# Altium integrated library Linear Technology PMIC-Switching Reg LTC1174-LTC3901.IntLib: 2647 symbols (part 123 of 310)
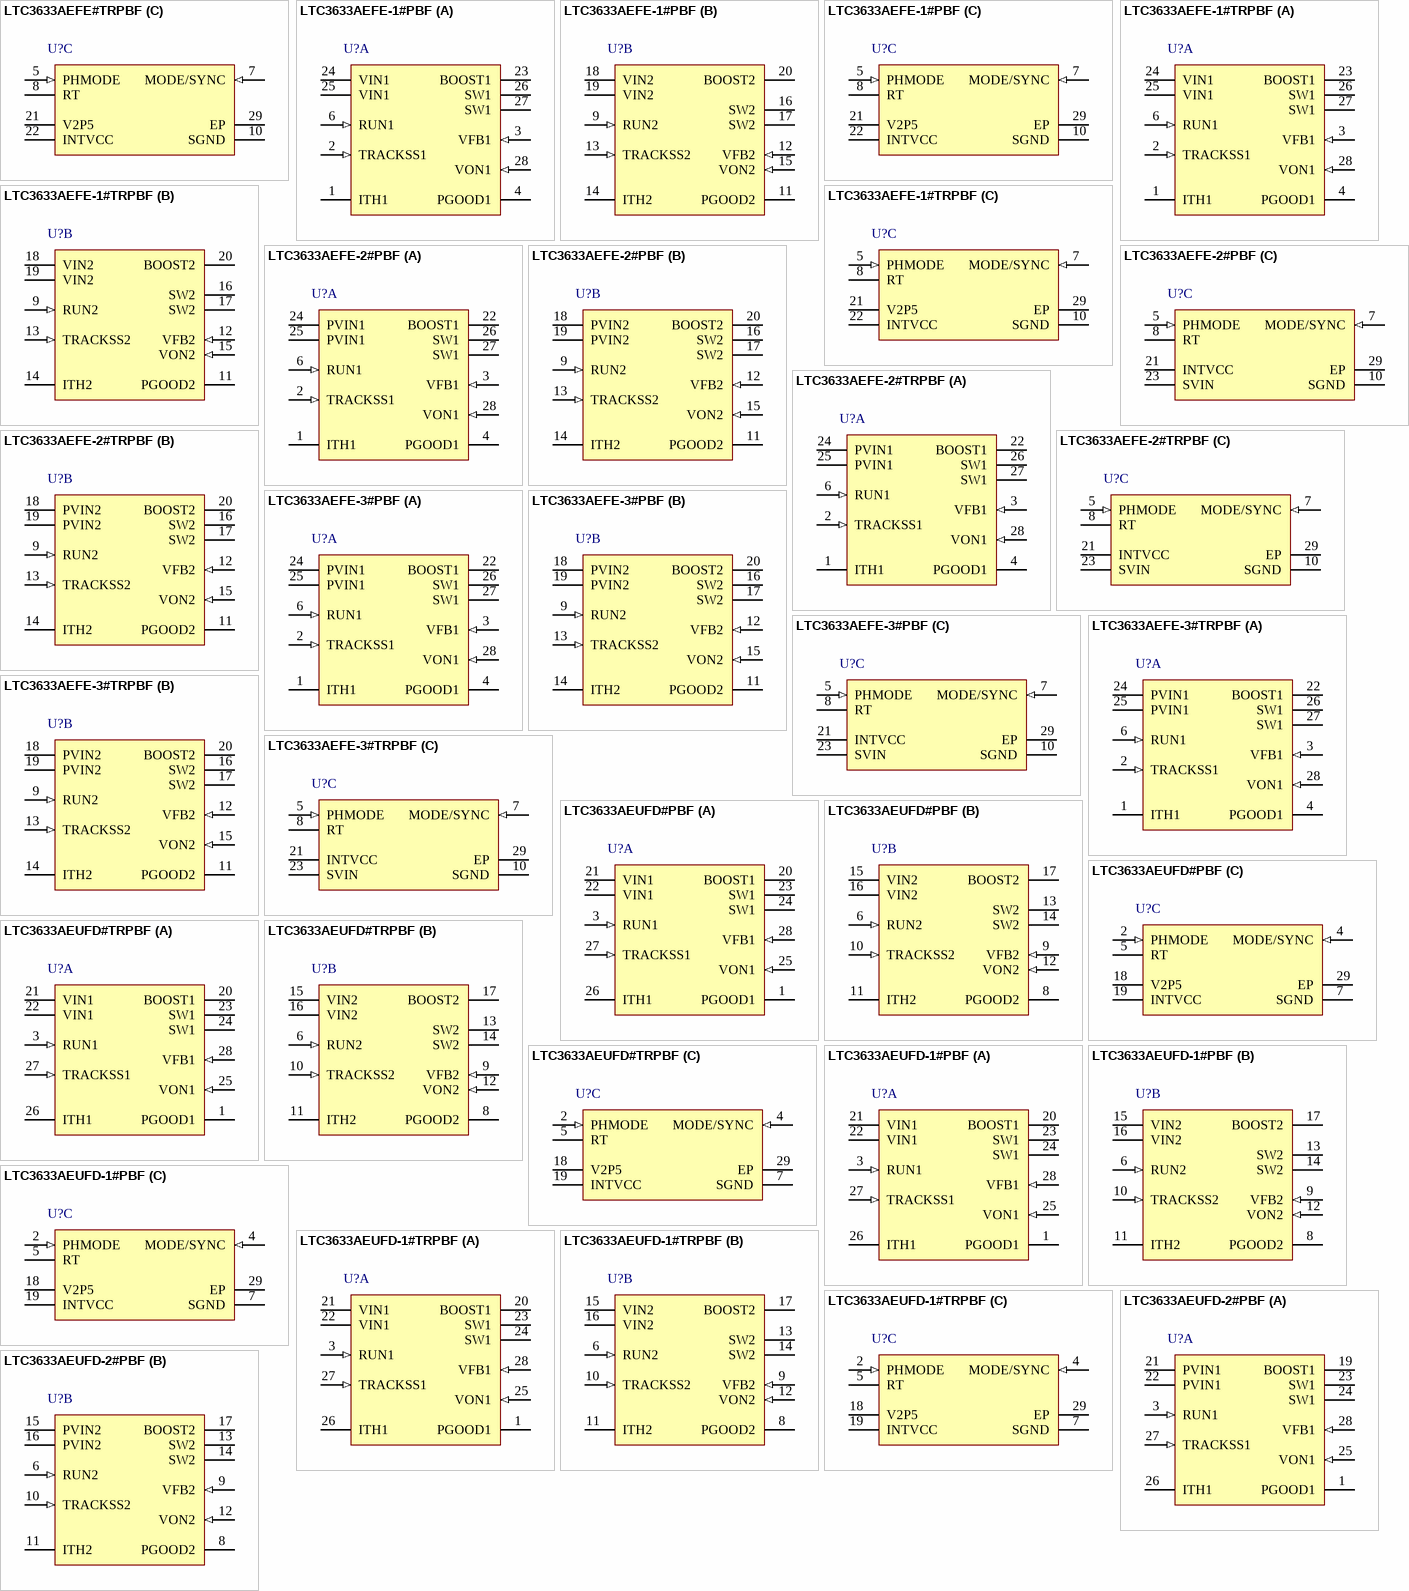
[diagram p186: symbols LTC3633AEFE#TRPBF to LTC3633AEUFD-2#PBF]

## LTC3633AEFE-1#PBF
designator U?
Dual Channel 3 A, Monolithic Synchronous Step-Down Regulator, 28-pin SOP (FE-28-EPV-EB), -40 to 125 degC, Pb-Free; Manufacturer: Linear Technology; PartNumber: LTC3633AEFE-1#PBF; Number of Outputs: 2; PackageReference: FE-28; PackageDescription: 28-Pin Plastic TSSOP, Body 9.7 x 4.4 mm, Pitch 0.65 mm; Supplier 1: Digi-Key; Supplier Part Number 1: LTC3633AEFE-1#PBF-ND; RoHS: TRUE
footprint LT-FE-28-EPV-EB_N (SOP, 28-Leads, Body 9.8x4.5mm, Pitch 0.65mm, Thermal Pad 4.75x2.74mm, IPC Medium Density)
footprint LT-FE-28-EPV-EB_L (SOP, 28-Leads, Body 9.8x4.5mm, Pitch 0.65mm, Thermal Pad 4.75x2.74mm, IPC High Density)
footprint LT-FE-28-EPV-EB_M (SOP, 28-Leads, Body 9.8x4.5mm, Pitch 0.65mm, Thermal Pad 4.75x2.74mm, IPC Low Density)
part A pins: 1 ITH1 "Channel 1 Error Amplifier Output and Switching Regulator Compensation Pin. Connect this pin to appropriate external components to compensate the regulator loop frequency response. Connect this pin to INTVCC to use the (See Datasheet)", 2 TRACKSS1 (in), 3 VFB1 (in) "Channel 1 Output Feedback Voltage Pin. Input to the error amplifier that compares the feedback voltage to the internal 0.6V reference voltage. Connect this pin to a resistor divider network to program the desired output (See Datasheet)", 4 PGOOD1 (hiz) "Channel 1 Open-Drain Power Good Output Pin. PGOOD1 is pulled to ground when the voltage on the VFB1 pin is not within +/-8% (typical) of the internal 0.6V reference. PGOOD1 becomes high impedance once the VFB1 pin returns to (See Datasheet)", 6 RUN1 (in) "Channel 1 Regulator Enable Pin. Enables channel 1 operation by tying RUN1 above 1.22V. Tying it below 1V places channel 1 into shutdown. Do not float this pin.", 23 BOOST1, 24 VIN1 (power), 25 VIN1 (power), 26 SW1 (power) "Channel 1 Switch Node Connection to External Inductor. Voltage swing of SW is from a diode voltage drop below ground to VIN.", 27 SW1 (power) "Channel 1 Switch Node Connection to External Inductor. Voltage swing of SW is from a diode voltage drop below ground to VIN.", 28 VON1 (in)
part B pins: 9 RUN2 (in) "Channel 2 Regulator Enable Pin. Enables channel 2 operation by tying RUN2 above 1.22V. Tying it below 1V places channel 2 into shutdown. Do not float this pin.", 11 PGOOD2 (hiz) "Channel 2 Open-Drain Power Good Output Pin. PGOOD2 is pulled to ground when the voltage on the VFB2 pin is not within +/-8% (typical) of the internal 0.6V reference. PGOOD2 becomes high impedance once the VFB2 pin returns to (See Datasheet)", 12 VFB2 (in) "Channel 2 Output Feedback Voltage Pin. Input to the error amplifier that compares the feedback voltage to the internal 0.6V reference voltage. Connect this pin to a resistor divider network to program the desired output (See Datasheet)", 13 TRACKSS2 (in), 14 ITH2 "Channel 2 Error Amplifier Output and Switching Regulator Compensation Pin. Connect this pin to appropriate external components to compensate the regulator loop frequency response. Connect this pin to INTVCC to use the (See Datasheet)", 15 VON2 (in), 16 SW2 (power) "Channel 2 Switch Node Connection to External Inductor. Voltage swing of SW is from a diode voltage drop below ground to VIN.", 17 SW2 (power) "Channel 2 Switch Node Connection to External Inductor. Voltage swing of SW is from a diode voltage drop below ground to VIN.", 18 VIN2 (power) "Power Supply Input for Channel 2. Input voltage to the on chip power MOSFETs on channel 2. This input is capable of operating from a different supply voltage than VIN1.", 19 VIN2 (power) "Power Supply Input for Channel 2. Input voltage to the on chip power MOSFETs on channel 2. This input is capable of operating from a different supply voltage than VIN1.", 20 BOOST2
part C pins: 5 PHMODE (in), 7 MODE/SYNC (in), 8 RT "Oscillator Frequency Program Pin. Connect an external resistor (between 80k to 640k) from this pin to SGND in order to program the frequency from 500kHz to 4MHz. When RT is tied to INTVCC, the switching frequency will (See Datasheet)", 10 SGND (power) "Signal Ground Pin. This pin should have a low noise connection to reference ground. The feedback resistor network, external compensation network, and RT resistor should be connected to this ground.", 21 V2P5 (power) "2.5V Regulator Output. Outputs a regulated 2.5V supply voltage capable of supplying 10mA. Bypass this pin with a minimum of 1uF low ESR ceramic capacitor. Tie this pin to INTVCC when this output is not being used in the (See Datasheet)", 22 INTVCC (power) "Internal 3.3V Regulator Output. The internal power drivers and control circuits are powered from this voltage. The internal regulator is disabled when both channel 1 and channel 2 are disabled with the RUN1/ RUN2 inputs. (See Datasheet)", 29 EP (power) "Power Ground Pin. The (-) terminal of the input bypass capacitor, CIN, and the (-) terminal of the output capacitor, COUT, should be tied to this pin with a low impedance connection. This pin must be soldered to the PCB to (See Datasheet)"

## LTC3633AEFE-1#TRPBF
designator U?
Dual Channel 3 A, Monolithic Synchronous Step-Down Regulator, 28-pin SOP (FE-28-EPV-EB), -40 to 125 degC, Pb-Free, Tape and Reel; Manufacturer: Linear Technology; PartNumber: LTC3633AEFE-1#TRPBF; Number of Outputs: 2; PackageReference: FE-28; PackageDescription: 28-Pin Plastic TSSOP, Body 9.7 x 4.4 mm, Pitch 0.65 mm; Supplier 1: Digi-Key; Supplier Part Number 1: LTC3633AEFE-1#TRPBF-ND; RoHS: TRUE
footprint LT-FE-28-EPV-EB_N (SOP, 28-Leads, Body 9.8x4.5mm, Pitch 0.65mm, Thermal Pad 4.75x2.74mm, IPC Medium Density)
footprint LT-FE-28-EPV-EB_L (SOP, 28-Leads, Body 9.8x4.5mm, Pitch 0.65mm, Thermal Pad 4.75x2.74mm, IPC High Density)
footprint LT-FE-28-EPV-EB_M (SOP, 28-Leads, Body 9.8x4.5mm, Pitch 0.65mm, Thermal Pad 4.75x2.74mm, IPC Low Density)
part A pins: 1 ITH1 "Channel 1 Error Amplifier Output and Switching Regulator Compensation Pin. Connect this pin to appropriate external components to compensate the regulator loop frequency response. Connect this pin to INTVCC to use the (See Datasheet)", 2 TRACKSS1 (in), 3 VFB1 (in) "Channel 1 Output Feedback Voltage Pin. Input to the error amplifier that compares the feedback voltage to the internal 0.6V reference voltage. Connect this pin to a resistor divider network to program the desired output (See Datasheet)", 4 PGOOD1 (hiz) "Channel 1 Open-Drain Power Good Output Pin. PGOOD1 is pulled to ground when the voltage on the VFB1 pin is not within +/-8% (typical) of the internal 0.6V reference. PGOOD1 becomes high impedance once the VFB1 pin returns to (See Datasheet)", 6 RUN1 (in) "Channel 1 Regulator Enable Pin. Enables channel 1 operation by tying RUN1 above 1.22V. Tying it below 1V places channel 1 into shutdown. Do not float this pin.", 23 BOOST1, 24 VIN1 (power), 25 VIN1 (power), 26 SW1 (power) "Channel 1 Switch Node Connection to External Inductor. Voltage swing of SW is from a diode voltage drop below ground to VIN.", 27 SW1 (power) "Channel 1 Switch Node Connection to External Inductor. Voltage swing of SW is from a diode voltage drop below ground to VIN.", 28 VON1 (in)
part B pins: 9 RUN2 (in) "Channel 2 Regulator Enable Pin. Enables channel 2 operation by tying RUN2 above 1.22V. Tying it below 1V places channel 2 into shutdown. Do not float this pin.", 11 PGOOD2 (hiz) "Channel 2 Open-Drain Power Good Output Pin. PGOOD2 is pulled to ground when the voltage on the VFB2 pin is not within +/-8% (typical) of the internal 0.6V reference. PGOOD2 becomes high impedance once the VFB2 pin returns to (See Datasheet)", 12 VFB2 (in) "Channel 2 Output Feedback Voltage Pin. Input to the error amplifier that compares the feedback voltage to the internal 0.6V reference voltage. Connect this pin to a resistor divider network to program the desired output (See Datasheet)", 13 TRACKSS2 (in), 14 ITH2 "Channel 2 Error Amplifier Output and Switching Regulator Compensation Pin. Connect this pin to appropriate external components to compensate the regulator loop frequency response. Connect this pin to INTVCC to use the (See Datasheet)", 15 VON2 (in), 16 SW2 (power) "Channel 2 Switch Node Connection to External Inductor. Voltage swing of SW is from a diode voltage drop below ground to VIN.", 17 SW2 (power) "Channel 2 Switch Node Connection to External Inductor. Voltage swing of SW is from a diode voltage drop below ground to VIN.", 18 VIN2 (power) "Power Supply Input for Channel 2. Input voltage to the on chip power MOSFETs on channel 2. This input is capable of operating from a different supply voltage than VIN1.", 19 VIN2 (power) "Power Supply Input for Channel 2. Input voltage to the on chip power MOSFETs on channel 2. This input is capable of operating from a different supply voltage than VIN1.", 20 BOOST2
part C pins: 5 PHMODE (in), 7 MODE/SYNC (in), 8 RT "Oscillator Frequency Program Pin. Connect an external resistor (between 80k to 640k) from this pin to SGND in order to program the frequency from 500kHz to 4MHz. When RT is tied to INTVCC, the switching frequency will (See Datasheet)", 10 SGND (power) "Signal Ground Pin. This pin should have a low noise connection to reference ground. The feedback resistor network, external compensation network, and RT resistor should be connected to this ground.", 21 V2P5 (power) "2.5V Regulator Output. Outputs a regulated 2.5V supply voltage capable of supplying 10mA. Bypass this pin with a minimum of 1uF low ESR ceramic capacitor. Tie this pin to INTVCC when this output is not being used in the (See Datasheet)", 22 INTVCC (power) "Internal 3.3V Regulator Output. The internal power drivers and control circuits are powered from this voltage. The internal regulator is disabled when both channel 1 and channel 2 are disabled with the RUN1/ RUN2 inputs. (See Datasheet)", 29 EP (power) "Power Ground Pin. The (-) terminal of the input bypass capacitor, CIN, and the (-) terminal of the output capacitor, COUT, should be tied to this pin with a low impedance connection. This pin must be soldered to the PCB to (See Datasheet)"

## LTC3633AEFE-2#PBF
designator U?
Dual Channel 3 A, Monolithic Synchronous Step-Down Regulator, 28-pin SOP (FE-28-EPV-EB), -40 to 125 degC, Pb-Free; Manufacturer: Linear Technology; PartNumber: LTC3633AEFE-2#PBF; Number of Outputs: 2; PackageReference: FE-28; PackageDescription: 28-Pin Plastic TSSOP, Body 9.7 x 4.4 mm, Pitch 0.65 mm; Supplier 1: Digi-Key; Supplier Part Number 1: LTC3633AEFE-2#PBF-ND; RoHS: TRUE
footprint LT-FE-28-EPV-EB_N (SOP, 28-Leads, Body 9.8x4.5mm, Pitch 0.65mm, Thermal Pad 4.75x2.74mm, IPC Medium Density)
footprint LT-FE-28-EPV-EB_L (SOP, 28-Leads, Body 9.8x4.5mm, Pitch 0.65mm, Thermal Pad 4.75x2.74mm, IPC High Density)
footprint LT-FE-28-EPV-EB_M (SOP, 28-Leads, Body 9.8x4.5mm, Pitch 0.65mm, Thermal Pad 4.75x2.74mm, IPC Low Density)
part A pins: 1 ITH1 "Channel 1 Error Amplifier Output and Switching Regulator Compensation Pin. Connect this pin to appropriate external components to compensate the regulator loop frequency response. Connect this pin to INTVCC to use the (See Datasheet)", 2 TRACKSS1 (in) "Output Tracking and Soft-Start Input Pin for Channel 1. Forcing a voltage below 0.6V on this pin bypasses the internal reference input to the error amplifier. The LTC3633A-2 will servo the FB pin to the TRACK voltage. Above (See Datasheet)", 3 VFB1 (in) "Channel 1 Output Feedback Voltage Pin. Input to the error amplifier that compares the feedback voltage to the internal 0.6V reference voltage. Connect this pin to a resistor divider network to program the desired output (See Datasheet)", 4 PGOOD1 (hiz) "Channel 1 Open-Drain Power Good Output Pin. PGOOD1 is pulled to ground when the voltage on the VFB1 pin is not within +/-8% (typical) of the internal 0.6V reference. PGOOD1 becomes high impedance once the VFB1 pin returns to (See Datasheet)", 6 RUN1 (in) "Channel 1 Regulator Enable Pin. Enables channel 1 operation by tying RUN1 above 1.22V. Tying it below 1V places channel 1 into shutdown. Do not float this pin.", 22 BOOST1 "Boosted Floating Driver Supply for Channel 1. The (+) terminal of the bootstrap capacitor connects to this pin while the (-) terminal connects to the SW pin. The normal operation voltage swing of this pin ranges from a diode (See Datasheet)", 24 PVIN1 (power) "Power Supply Input for Channel 1. Input voltage to the on chip power MOSFETs on channel 1.", 25 PVIN1 (power) "Power Supply Input for Channel 1. Input voltage to the on chip power MOSFETs on channel 1.", 26 SW1 (power) "Channel 1 Switch Node Connection to External Inductor. Voltage swing of SW is from a diode voltage drop below ground to PVIN.", 27 SW1 (power) "Channel 1 Switch Node Connection to External Inductor. Voltage swing of SW is from a diode voltage drop below ground to PVIN.", 28 VON1 (in) "On-Time Voltage Input for Channel 1. This pin sets the voltage trip point for the on-time comparator. Tying this pin to the regulated output voltage makes the on-time proportional to VOUT1 when VOUT1 is within the VON1 sense (See Datasheet)"
part B pins: 9 RUN2 (in) "Channel 2 Regulator Enable Pin. Enables channel 2 operation by tying RUN2 above 1.22V. Tying it below 1V places channel 2 into shutdown. Do not float this pin.", 11 PGOOD2 (hiz) "Channel 2 Open-Drain Power Good Output Pin. PGOOD2 is pulled to ground when the voltage on the VFB2 pin is not within +/-8% (typical) of the internal 0.6V reference. PGOOD2 becomes high impedance once the VFB2 pin returns to (See Datasheet)", 12 VFB2 (in) "Channel 2 Output Feedback Voltage Pin. Input to the error amplifier that compares the feedback voltage to the internal 0.6V reference voltage. Connect this pin to a resistor divider network to program the desired output (See Datasheet)", 13 TRACKSS2 (in) "Output Tracking and Soft-Start Input Pin for Channel 2. Forcing a voltage below 0.6V on this pin bypasses the internal reference input to the error amplifier. The LTC3633A-2 will servo the FB pin to the TRACK voltage under (See Datasheet)", 14 ITH2 "Channel 2 Error Amplifier Output and Switching Regulator Compensation Pin. Connect this pin to appropriate external components to compensate the regulator loop frequency response. Connect this pin to INTVCC to use the (See Datasheet)", 15 VON2 (in) "On-Time Voltage Input for Channel 2. This pin sets the voltage trip point for the on-time comparator. Tying this pin to the output voltage makes the on-time proportional to VOUT2 when VOUT2 is within the VON2 sense range (0.(See Datasheet)", 16 SW2 (power) "Channel 2 Switch Node Connection to External Inductor. Voltage swing of SW is from a diode voltage drop below ground to PVIN.", 17 SW2 (power) "Channel 2 Switch Node Connection to External Inductor. Voltage swing of SW is from a diode voltage drop below ground to PVIN.", 18 PVIN2 (power) "Power Supply Input for Channel 2. Input voltage to the on chip power MOSFETs on channel 2. This input is capable of operating from a different supply voltage than PVIN1.", 19 PVIN2 (power) "Power Supply Input for Channel 2. Input voltage to the on chip power MOSFETs on channel 2. This input is capable of operating from a different supply voltage than PVIN1.", 20 BOOST2 "Boosted Floating Driver Supply for Channel 2. The (+) terminal of the bootstrap capacitor connects to this pin while the (-) terminal connects to the SW pin. The normal operation voltage swing of this pin ranges from a diode (See Datasheet)"
part C pins: 5 PHMODE (in) "Phase Select Input. Tie this pin to ground to force both channels to switch in phase. Tie this pin to INTVCC to force both channels to switch 180degrees out of phase. Do not float this pin.", 7 MODE/SYNC (in) "Mode Select and External Synchronization Input. Tie this pin to ground to force continuous synchronous operation at all output loads. Floating this pin or tying it to INTVCC enables high efficiency Burst Mode operation at (See Datasheet)", 8 RT "Oscillator Frequency Program Pin. Connect an external resistor (between 80k to 640k) from this pin to SGND in order to program the frequency from 500kHz to 4MHz. When RT is tied to INTVCC, the switching frequency will (See Datasheet)", 10 SGND (power) "Signal Ground Pin. This pin should have a low noise connection to reference ground. The feedback resistor network, external compensation network, and RT resistor should be connected to this ground.", 21 INTVCC (power) "Internal 3.3V Regulator Output. The internal power drivers and control circuits are powered from this voltage. The internal regulator is disabled when both channel 1 and channel 2 are disabled with the RUN1/ RUN2 inputs. (See Datasheet)", 23 SVIN (power) "Signal Input Supply. This pin powers the internal control circuitry. The internal LDO for INTVCC is powered from this pin.", 29 EP (power) "Power Ground Pin. The (-) terminal of the input bypass capacitor, CIN, and the (-) terminal of the output capacitor, COUT, should be tied to this pin with a low impedance connection. This pin must be soldered to the PCB to (See Datasheet)"

## LTC3633AEFE-2#TRPBF
designator U?
Dual Channel 3 A, Monolithic Synchronous Step-Down Regulator, 28-pin SOP (FE-28-EPV-EB), -40 to 125 degC, Pb-Free, Tape and Reel; Manufacturer: Linear Technology; PartNumber: LTC3633AEFE-2#TRPBF; Number of Outputs: 2; PackageReference: FE-28; PackageDescription: 28-Pin Plastic TSSOP, Body 9.7 x 4.4 mm, Pitch 0.65 mm; Supplier 1: Digi-Key; Supplier Part Number 1: LTC3633AEFE-2#TRPBF-ND; RoHS: TRUE
footprint LT-FE-28-EPV-EB_N (SOP, 28-Leads, Body 9.8x4.5mm, Pitch 0.65mm, Thermal Pad 4.75x2.74mm, IPC Medium Density)
footprint LT-FE-28-EPV-EB_L (SOP, 28-Leads, Body 9.8x4.5mm, Pitch 0.65mm, Thermal Pad 4.75x2.74mm, IPC High Density)
footprint LT-FE-28-EPV-EB_M (SOP, 28-Leads, Body 9.8x4.5mm, Pitch 0.65mm, Thermal Pad 4.75x2.74mm, IPC Low Density)
part A pins: 1 ITH1 "Channel 1 Error Amplifier Output and Switching Regulator Compensation Pin. Connect this pin to appropriate external components to compensate the regulator loop frequency response. Connect this pin to INTVCC to use the (See Datasheet)", 2 TRACKSS1 (in) "Output Tracking and Soft-Start Input Pin for Channel 1. Forcing a voltage below 0.6V on this pin bypasses the internal reference input to the error amplifier. The LTC3633A-2 will servo the FB pin to the TRACK voltage. Above (See Datasheet)", 3 VFB1 (in) "Channel 1 Output Feedback Voltage Pin. Input to the error amplifier that compares the feedback voltage to the internal 0.6V reference voltage. Connect this pin to a resistor divider network to program the desired output (See Datasheet)", 4 PGOOD1 (hiz) "Channel 1 Open-Drain Power Good Output Pin. PGOOD1 is pulled to ground when the voltage on the VFB1 pin is not within +/-8% (typical) of the internal 0.6V reference. PGOOD1 becomes high impedance once the VFB1 pin returns to (See Datasheet)", 6 RUN1 (in) "Channel 1 Regulator Enable Pin. Enables channel 1 operation by tying RUN1 above 1.22V. Tying it below 1V places channel 1 into shutdown. Do not float this pin.", 22 BOOST1 "Boosted Floating Driver Supply for Channel 1. The (+) terminal of the bootstrap capacitor connects to this pin while the (-) terminal connects to the SW pin. The normal operation voltage swing of this pin ranges from a diode (See Datasheet)", 24 PVIN1 (power) "Power Supply Input for Channel 1. Input voltage to the on chip power MOSFETs on channel 1.", 25 PVIN1 (power) "Power Supply Input for Channel 1. Input voltage to the on chip power MOSFETs on channel 1.", 26 SW1 (power) "Channel 1 Switch Node Connection to External Inductor. Voltage swing of SW is from a diode voltage drop below ground to PVIN.", 27 SW1 (power) "Channel 1 Switch Node Connection to External Inductor. Voltage swing of SW is from a diode voltage drop below ground to PVIN.", 28 VON1 (in) "On-Time Voltage Input for Channel 1. This pin sets the voltage trip point for the on-time comparator. Tying this pin to the regulated output voltage makes the on-time proportional to VOUT1 when VOUT1 is within the VON1 sense (See Datasheet)"
part B pins: 9 RUN2 (in) "Channel 2 Regulator Enable Pin. Enables channel 2 operation by tying RUN2 above 1.22V. Tying it below 1V places channel 2 into shutdown. Do not float this pin.", 11 PGOOD2 (hiz) "Channel 2 Open-Drain Power Good Output Pin. PGOOD2 is pulled to ground when the voltage on the VFB2 pin is not within +/-8% (typical) of the internal 0.6V reference. PGOOD2 becomes high impedance once the VFB2 pin returns to (See Datasheet)", 12 VFB2 (in) "Channel 2 Output Feedback Voltage Pin. Input to the error amplifier that compares the feedback voltage to the internal 0.6V reference voltage. Connect this pin to a resistor divider network to program the desired output (See Datasheet)", 13 TRACKSS2 (in) "Output Tracking and Soft-Start Input Pin for Channel 2. Forcing a voltage below 0.6V on this pin bypasses the internal reference input to the error amplifier. The LTC3633A-2 will servo the FB pin to the TRACK voltage under (See Datasheet)", 14 ITH2 "Channel 2 Error Amplifier Output and Switching Regulator Compensation Pin. Connect this pin to appropriate external components to compensate the regulator loop frequency response. Connect this pin to INTVCC to use the (See Datasheet)", 15 VON2 (in) "On-Time Voltage Input for Channel 2. This pin sets the voltage trip point for the on-time comparator. Tying this pin to the output voltage makes the on-time proportional to VOUT2 when VOUT2 is within the VON2 sense range (0.(See Datasheet)", 16 SW2 (power) "Channel 2 Switch Node Connection to External Inductor. Voltage swing of SW is from a diode voltage drop below ground to PVIN.", 17 SW2 (power) "Channel 2 Switch Node Connection to External Inductor. Voltage swing of SW is from a diode voltage drop below ground to PVIN.", 18 PVIN2 (power) "Power Supply Input for Channel 2. Input voltage to the on chip power MOSFETs on channel 2. This input is capable of operating from a different supply voltage than PVIN1.", 19 PVIN2 (power) "Power Supply Input for Channel 2. Input voltage to the on chip power MOSFETs on channel 2. This input is capable of operating from a different supply voltage than PVIN1.", 20 BOOST2 "Boosted Floating Driver Supply for Channel 2. The (+) terminal of the bootstrap capacitor connects to this pin while the (-) terminal connects to the SW pin. The normal operation voltage swing of this pin ranges from a diode (See Datasheet)"
part C pins: 5 PHMODE (in) "Phase Select Input. Tie this pin to ground to force both channels to switch in phase. Tie this pin to INTVCC to force both channels to switch 180degrees out of phase. Do not float this pin.", 7 MODE/SYNC (in) "Mode Select and External Synchronization Input. Tie this pin to ground to force continuous synchronous operation at all output loads. Floating this pin or tying it to INTVCC enables high efficiency Burst Mode operation at (See Datasheet)", 8 RT "Oscillator Frequency Program Pin. Connect an external resistor (between 80k to 640k) from this pin to SGND in order to program the frequency from 500kHz to 4MHz. When RT is tied to INTVCC, the switching frequency will (See Datasheet)", 10 SGND (power) "Signal Ground Pin. This pin should have a low noise connection to reference ground. The feedback resistor network, external compensation network, and RT resistor should be connected to this ground.", 21 INTVCC (power) "Internal 3.3V Regulator Output. The internal power drivers and control circuits are powered from this voltage. The internal regulator is disabled when both channel 1 and channel 2 are disabled with the RUN1/ RUN2 inputs. (See Datasheet)", 23 SVIN (power) "Signal Input Supply. This pin powers the internal control circuitry. The internal LDO for INTVCC is powered from this pin.", 29 EP (power) "Power Ground Pin. The (-) terminal of the input bypass capacitor, CIN, and the (-) terminal of the output capacitor, COUT, should be tied to this pin with a low impedance connection. This pin must be soldered to the PCB to (See Datasheet)"

## LTC3633AEFE-3#PBF
designator U?
Dual Channel 3 A, Monolithic Synchronous Step-Down Regulator, 28-pin SOP (FE-28-EPV-EB), -40 to 125 degC, Pb-Free; Manufacturer: Linear Technology; PartNumber: LTC3633AEFE-3#PBF; Number of Outputs: 2; PackageReference: FE-28; PackageDescription: 28-Pin Plastic TSSOP, Body 9.7 x 4.4 mm, Pitch 0.65 mm; Supplier 1: Digi-Key; Supplier Part Number 1: LTC3633AEFE-3#PBF-ND; RoHS: TRUE
footprint LT-FE-28-EPV-EB_N (SOP, 28-Leads, Body 9.8x4.5mm, Pitch 0.65mm, Thermal Pad 4.75x2.74mm, IPC Medium Density)
footprint LT-FE-28-EPV-EB_L (SOP, 28-Leads, Body 9.8x4.5mm, Pitch 0.65mm, Thermal Pad 4.75x2.74mm, IPC High Density)
footprint LT-FE-28-EPV-EB_M (SOP, 28-Leads, Body 9.8x4.5mm, Pitch 0.65mm, Thermal Pad 4.75x2.74mm, IPC Low Density)
part A pins: 1 ITH1 "Channel 1 Error Amplifier Output and Switching Regulator Compensation Pin. Connect this pin to appropriate external components to compensate the regulator loop frequency response. Connect this pin to INTVCC to use the (See Datasheet)", 2 TRACKSS1 (in) "Output Tracking and Soft-Start Input Pin for Channel 1. Forcing a voltage below 0.6V on this pin bypasses the internal reference input to the error amplifier. The LTC3633A-2 will servo the FB pin to the TRACK voltage. Above (See Datasheet)", 3 VFB1 (in) "Channel 1 Output Feedback Voltage Pin. Input to the error amplifier that compares the feedback voltage to the internal 0.6V reference voltage. Connect this pin to a resistor divider network to program the desired output (See Datasheet)", 4 PGOOD1 (hiz) "Channel 1 Open-Drain Power Good Output Pin. PGOOD1 is pulled to ground when the voltage on the VFB1 pin is not within +/-8% (typical) of the internal 0.6V reference. PGOOD1 becomes high impedance once the VFB1 pin returns to (See Datasheet)", 6 RUN1 (in) "Channel 1 Regulator Enable Pin. Enables channel 1 operation by tying RUN1 above 1.22V. Tying it below 1V places channel 1 into shutdown. Do not float this pin.", 22 BOOST1 "Boosted Floating Driver Supply for Channel 1. The (+) terminal of the bootstrap capacitor connects to this pin while the (-) terminal connects to the SW pin. The normal operation voltage swing of this pin ranges from a diode (See Datasheet)", 24 PVIN1 (power) "Power Supply Input for Channel 1. Input voltage to the on chip power MOSFETs on channel 1.", 25 PVIN1 (power) "Power Supply Input for Channel 1. Input voltage to the on chip power MOSFETs on channel 1.", 26 SW1 (power) "Channel 1 Switch Node Connection to External Inductor. Voltage swing of SW is from a diode voltage drop below ground to PVIN.", 27 SW1 (power) "Channel 1 Switch Node Connection to External Inductor. Voltage swing of SW is from a diode voltage drop below ground to PVIN.", 28 VON1 (in) "On-Time Voltage Input for Channel 1. This pin sets the voltage trip point for the on-time comparator. Tying this pin to the regulated output voltage makes the on-time proportional to VOUT1 when VOUT1 is within the VON1 sense (See Datasheet)"
part B pins: 9 RUN2 (in) "Channel 2 Regulator Enable Pin. Enables channel 2 operation by tying RUN2 above 1.22V. Tying it below 1V places channel 2 into shutdown. Do not float this pin.", 11 PGOOD2 (hiz) "Channel 2 Open-Drain Power Good Output Pin. PGOOD2 is pulled to ground when the voltage on the VFB2 pin is not within +/-8% (typical) of the internal 0.6V reference. PGOOD2 becomes high impedance once the VFB2 pin returns to (See Datasheet)", 12 VFB2 (in) "Channel 2 Output Feedback Voltage Pin. Input to the error amplifier that compares the feedback voltage to the internal 0.6V reference voltage. Connect this pin to a resistor divider network to program the desired output (See Datasheet)", 13 TRACKSS2 (in) "Output Tracking and Soft-Start Input Pin for Channel 2. Forcing a voltage below 0.6V on this pin bypasses the internal reference input to the error amplifier. The LTC3633A-2 will servo the FB pin to the TRACK voltage under (See Datasheet)", 14 ITH2 "Channel 2 Error Amplifier Output and Switching Regulator Compensation Pin. Connect this pin to appropriate external components to compensate the regulator loop frequency response. Connect this pin to INTVCC to use the (See Datasheet)", 15 VON2 (in) "On-Time Voltage Input for Channel 2. This pin sets the voltage trip point for the on-time comparator. Tying this pin to the output voltage makes the on-time proportional to VOUT2 when VOUT2 is within the VON2 sense range (0.(See Datasheet)", 16 SW2 (power) "Channel 2 Switch Node Connection to External Inductor. Voltage swing of SW is from a diode voltage drop below ground to PVIN.", 17 SW2 (power) "Channel 2 Switch Node Connection to External Inductor. Voltage swing of SW is from a diode voltage drop below ground to PVIN.", 18 PVIN2 (power) "Power Supply Input for Channel 2. Input voltage to the on chip power MOSFETs on channel 2. This input is capable of operating from a different supply voltage than PVIN1.", 19 PVIN2 (power) "Power Supply Input for Channel 2. Input voltage to the on chip power MOSFETs on channel 2. This input is capable of operating from a different supply voltage than PVIN1.", 20 BOOST2 "Boosted Floating Driver Supply for Channel 2. The (+) terminal of the bootstrap capacitor connects to this pin while the (-) terminal connects to the SW pin. The normal operation voltage swing of this pin ranges from a diode (See Datasheet)"
part C pins: 5 PHMODE (in) "Phase Select Input. Tie this pin to ground to force both channels to switch in phase. Tie this pin to INTVCC to force both channels to switch 180degrees out of phase. Do not float this pin.", 7 MODE/SYNC (in) "Mode Select and External Synchronization Input. Tie this pin to ground to force continuous synchronous operation at all output loads. Floating this pin or tying it to INTVCC enables high efficiency Burst Mode operation at (See Datasheet)", 8 RT "Oscillator Frequency Program Pin. Connect an external resistor (between 80k to 640k) from this pin to SGND in order to program the frequency from 500kHz to 4MHz. When RT is tied to INTVCC, the switching frequency will (See Datasheet)", 10 SGND (power) "Signal Ground Pin. This pin should have a low noise connection to reference ground. The feedback resistor network, external compensation network, and RT resistor should be connected to this ground.", 21 INTVCC (power) "Internal 3.3V Regulator Output. The internal power drivers and control circuits are powered from this voltage. The internal regulator is disabled when both channel 1 and channel 2 are disabled with the RUN1/ RUN2 inputs. (See Datasheet)", 23 SVIN (power) "Signal Input Supply. This pin powers the internal control circuitry. The internal LDO for INTVCC is powered from this pin.", 29 EP (power) "Power Ground Pin. The (-) terminal of the input bypass capacitor, CIN, and the (-) terminal of the output capacitor, COUT, should be tied to this pin with a low impedance connection. This pin must be soldered to the PCB to (See Datasheet)"

## LTC3633AEFE-3#TRPBF
designator U?
Dual Channel 3 A, Monolithic Synchronous Step-Down Regulator, 28-pin SOP (FE-28-EPV-EB), -40 to 125 degC, Pb-Free, Tape and Reel; Manufacturer: Linear Technology; PartNumber: LTC3633AEFE-3#TRPBF; Number of Outputs: 2; PackageReference: FE-28; PackageDescription: 28-Pin Plastic TSSOP, Body 9.7 x 4.4 mm, Pitch 0.65 mm; Supplier 1: Digi-Key; Supplier Part Number 1: LTC3633AEFE-3#TRPBF-ND; RoHS: TRUE
footprint LT-FE-28-EPV-EB_N (SOP, 28-Leads, Body 9.8x4.5mm, Pitch 0.65mm, Thermal Pad 4.75x2.74mm, IPC Medium Density)
footprint LT-FE-28-EPV-EB_L (SOP, 28-Leads, Body 9.8x4.5mm, Pitch 0.65mm, Thermal Pad 4.75x2.74mm, IPC High Density)
footprint LT-FE-28-EPV-EB_M (SOP, 28-Leads, Body 9.8x4.5mm, Pitch 0.65mm, Thermal Pad 4.75x2.74mm, IPC Low Density)
part A pins: 1 ITH1 "Channel 1 Error Amplifier Output and Switching Regulator Compensation Pin. Connect this pin to appropriate external components to compensate the regulator loop frequency response. Connect this pin to INTVCC to use the (See Datasheet)", 2 TRACKSS1 (in) "Output Tracking and Soft-Start Input Pin for Channel 1. Forcing a voltage below 0.6V on this pin bypasses the internal reference input to the error amplifier. The LTC3633A-2 will servo the FB pin to the TRACK voltage. Above (See Datasheet)", 3 VFB1 (in) "Channel 1 Output Feedback Voltage Pin. Input to the error amplifier that compares the feedback voltage to the internal 0.6V reference voltage. Connect this pin to a resistor divider network to program the desired output (See Datasheet)", 4 PGOOD1 (hiz) "Channel 1 Open-Drain Power Good Output Pin. PGOOD1 is pulled to ground when the voltage on the VFB1 pin is not within +/-8% (typical) of the internal 0.6V reference. PGOOD1 becomes high impedance once the VFB1 pin returns to (See Datasheet)", 6 RUN1 (in) "Channel 1 Regulator Enable Pin. Enables channel 1 operation by tying RUN1 above 1.22V. Tying it below 1V places channel 1 into shutdown. Do not float this pin.", 22 BOOST1 "Boosted Floating Driver Supply for Channel 1. The (+) terminal of the bootstrap capacitor connects to this pin while the (-) terminal connects to the SW pin. The normal operation voltage swing of this pin ranges from a diode (See Datasheet)", 24 PVIN1 (power) "Power Supply Input for Channel 1. Input voltage to the on chip power MOSFETs on channel 1.", 25 PVIN1 (power) "Power Supply Input for Channel 1. Input voltage to the on chip power MOSFETs on channel 1.", 26 SW1 (power) "Channel 1 Switch Node Connection to External Inductor. Voltage swing of SW is from a diode voltage drop below ground to PVIN.", 27 SW1 (power) "Channel 1 Switch Node Connection to External Inductor. Voltage swing of SW is from a diode voltage drop below ground to PVIN.", 28 VON1 (in) "On-Time Voltage Input for Channel 1. This pin sets the voltage trip point for the on-time comparator. Tying this pin to the regulated output voltage makes the on-time proportional to VOUT1 when VOUT1 is within the VON1 sense (See Datasheet)"
part B pins: 9 RUN2 (in) "Channel 2 Regulator Enable Pin. Enables channel 2 operation by tying RUN2 above 1.22V. Tying it below 1V places channel 2 into shutdown. Do not float this pin.", 11 PGOOD2 (hiz) "Channel 2 Open-Drain Power Good Output Pin. PGOOD2 is pulled to ground when the voltage on the VFB2 pin is not within +/-8% (typical) of the internal 0.6V reference. PGOOD2 becomes high impedance once the VFB2 pin returns to (See Datasheet)", 12 VFB2 (in) "Channel 2 Output Feedback Voltage Pin. Input to the error amplifier that compares the feedback voltage to the internal 0.6V reference voltage. Connect this pin to a resistor divider network to program the desired output (See Datasheet)", 13 TRACKSS2 (in) "Output Tracking and Soft-Start Input Pin for Channel 2. Forcing a voltage below 0.6V on this pin bypasses the internal reference input to the error amplifier. The LTC3633A-2 will servo the FB pin to the TRACK voltage under (See Datasheet)", 14 ITH2 "Channel 2 Error Amplifier Output and Switching Regulator Compensation Pin. Connect this pin to appropriate external components to compensate the regulator loop frequency response. Connect this pin to INTVCC to use the (See Datasheet)", 15 VON2 (in) "On-Time Voltage Input for Channel 2. This pin sets the voltage trip point for the on-time comparator. Tying this pin to the output voltage makes the on-time proportional to VOUT2 when VOUT2 is within the VON2 sense range (0.(See Datasheet)", 16 SW2 (power) "Channel 2 Switch Node Connection to External Inductor. Voltage swing of SW is from a diode voltage drop below ground to PVIN.", 17 SW2 (power) "Channel 2 Switch Node Connection to External Inductor. Voltage swing of SW is from a diode voltage drop below ground to PVIN.", 18 PVIN2 (power) "Power Supply Input for Channel 2. Input voltage to the on chip power MOSFETs on channel 2. This input is capable of operating from a different supply voltage than PVIN1.", 19 PVIN2 (power) "Power Supply Input for Channel 2. Input voltage to the on chip power MOSFETs on channel 2. This input is capable of operating from a different supply voltage than PVIN1.", 20 BOOST2 "Boosted Floating Driver Supply for Channel 2. The (+) terminal of the bootstrap capacitor connects to this pin while the (-) terminal connects to the SW pin. The normal operation voltage swing of this pin ranges from a diode (See Datasheet)"
part C pins: 5 PHMODE (in) "Phase Select Input. Tie this pin to ground to force both channels to switch in phase. Tie this pin to INTVCC to force both channels to switch 180degrees out of phase. Do not float this pin.", 7 MODE/SYNC (in) "Mode Select and External Synchronization Input. Tie this pin to ground to force continuous synchronous operation at all output loads. Floating this pin or tying it to INTVCC enables high efficiency Burst Mode operation at (See Datasheet)", 8 RT "Oscillator Frequency Program Pin. Connect an external resistor (between 80k to 640k) from this pin to SGND in order to program the frequency from 500kHz to 4MHz. When RT is tied to INTVCC, the switching frequency will (See Datasheet)", 10 SGND (power) "Signal Ground Pin. This pin should have a low noise connection to reference ground. The feedback resistor network, external compensation network, and RT resistor should be connected to this ground.", 21 INTVCC (power) "Internal 3.3V Regulator Output. The internal power drivers and control circuits are powered from this voltage. The internal regulator is disabled when both channel 1 and channel 2 are disabled with the RUN1/ RUN2 inputs. (See Datasheet)", 23 SVIN (power) "Signal Input Supply. This pin powers the internal control circuitry. The internal LDO for INTVCC is powered from this pin.", 29 EP (power) "Power Ground Pin. The (-) terminal of the input bypass capacitor, CIN, and the (-) terminal of the output capacitor, COUT, should be tied to this pin with a low impedance connection. This pin must be soldered to the PCB to (See Datasheet)"

## LTC3633AEUFD#PBF
designator U?
Dual Channel 3 A, Monolithic Synchronous Step-Down Regulator, 28-pin QFN (UFD-28), -40 to 125 degC, Pb-Free; Manufacturer: Linear Technology; PartNumber: LTC3633AEUFD#PBF; Number of Outputs: 2; PackageReference: UFD-28; PackageDescription: 28-Pin Plastic QFN, Body 5 x 4 mm, Pitch 0.5 mm; Supplier 1: Digi-Key; Supplier Part Number 1: LTC3633AEUFD#PBF-ND; RoHS: TRUE; Code_JEDEC: MO-220
footprint LT-UFD-28_N (QFN, 28-Leads, Body 5.1x4.1mm, Pitch 0.5mm, Thermal Pad 3.65x2.65mm, IPC Medium Density)
footprint LT-UFD-28_L (QFN, 28-Leads, Body 5.1x4.1mm, Pitch 0.5mm, Thermal Pad 3.65x2.65mm, IPC High Density)
footprint LT-UFD-28_M (QFN, 28-Leads, Body 5.1x4.1mm, Pitch 0.5mm, Thermal Pad 3.65x2.65mm, IPC Low Density)
part A pins: 1 PGOOD1 (hiz) "Channel 1 Open-Drain Power Good Output Pin. PGOOD1 is pulled to ground when the voltage on the VFB1 pin is not within +/-8% (typical) of the internal 0.6V reference. PGOOD1 becomes high impedance once the VFB1 pin returns to (See Datasheet)", 3 RUN1 (in) "Channel 1 Regulator Enable Pin. Enables channel 1 operation by tying RUN1 above 1.22V. Tying it below 1V places channel 1 into shutdown. Do not float this pin.", 20 BOOST1 "Boosted Floating Driver Supply for Channel 1. The (+) terminal of the bootstrap capacitor connects to this pin while the (-) terminal connects to the SW pin. The normal operation voltage swing of this pin ranges from a diode (See Datasheet)", 21 VIN1 (power), 22 VIN1 (power), 23 SW1 (power) "Channel 1 Switch Node Connection to External Inductor. Voltage swing of SW is from a diode voltage drop below ground to VIN.", 24 SW1 (power) "Channel 1 Switch Node Connection to External Inductor. Voltage swing of SW is from a diode voltage drop below ground to VIN.", 25 VON1 (in) "On-Time Voltage Input for Channel 1. This pin sets the voltage trip point for the on-time comparator. Tying this pin to the regulated output voltage makes the on-time proportional to VOUT1 when VOUT1 is within the VON1 sense (See Datasheet)", 26 ITH1 "Channel 1 Error Amplifier Output and Switching Regulator Compensation Pin. Connect this pin to appropriate external components to compensate the regulator loop frequency response. Connect this pin to INTVCC to use the (See Datasheet)", 27 TRACKSS1 (in) "Output Tracking and Soft-Start Input Pin for Channel 1. Forcing a voltage below 0.6V on this pin bypasses the internal reference input to the error amplifier.", 28 VFB1 (in) "Channel 1 Output Feedback Voltage Pin. Input to the error amplifier that compares the feedback voltage to the internal 0.6V reference voltage. Connect this pin to a resistor divider network to program the desired output (See Datasheet)"
part B pins: 6 RUN2 (in) "Channel 2 Regulator Enable Pin. Enables channel 2 operation by tying RUN2 above 1.22V. Tying it below 1V places channel 2 into shutdown. Do not float this pin.", 8 PGOOD2 (hiz) "Channel 2 Open-Drain Power Good Output Pin. PGOOD2 is pulled to ground when the voltage on the VFB2 pin is not within +/-8% (typical) of the internal 0.6V reference. PGOOD2 becomes high impedance once the VFB2 pin returns to (See Datasheet)", 9 VFB2 (in) "Channel 2 Output Feedback Voltage Pin. Input to the error amplifier that compares the feedback voltage to the internal 0.6V reference voltage. Connect this pin to a resistor divider network to program the desired output (See Datasheet)", 10 TRACKSS2 (in) "Output Tracking and Soft-Start Input Pin for Channel 2. Forcing a voltage below 0.6V on this pin bypasses the internal reference input to the error amplifier.", 11 ITH2 "Channel 2 Error Amplifier Output and Switching Regulator Compensation Pin. Connect this pin to appropriate external components to compensate the regulator loop frequency response. Connect this pin to INTVCC to use the (See Datasheet)", 12 VON2 (in) "On-Time Voltage Input for Channel 2. This pin sets the voltage trip point for the on-time comparator.", 13 SW2 (power) "Channel 2 Switch Node Connection to External Inductor. Voltage swing of SW is from a diode voltage drop below ground to VIN.", 14 SW2 (power) "Channel 2 Switch Node Connection to External Inductor. Voltage swing of SW is from a diode voltage drop below ground to VIN.", 15 VIN2 (power) "Power Supply Input for Channel 2. Input voltage to the on chip power MOSFETs on channel 2. This input is capable of operating from a different supply voltage than VIN1.", 16 VIN2 (power) "Power Supply Input for Channel 2. Input voltage to the on chip power MOSFETs on channel 2. This input is capable of operating from a different supply voltage than VIN1.", 17 BOOST2 "Boosted Floating Driver Supply for Channel 2. The (+) terminal of the bootstrap capacitor connects to this pin while the (-) terminal connects to the SW pin. The normal operation voltage swing of this pin ranges from a diode (See Datasheet)"
part C pins: 2 PHMODE (in) "Phase Select Input. Tie this pin to ground to force both channels to switch in phase.", 4 MODE/SYNC (in) "Mode Select and External Synchronization Input. Tie this pin to ground to force continuous synchronous operation at all output loads. Floating this pin or tying it to INTVCC enables high efficiency Burst Mode operation at (See Datasheet)", 5 RT "Oscillator Frequency Program Pin. Connect an external resistor (between 80k to 640k) from this pin to SGND in order to program the frequency from 500kHz to 4MHz. When RT is tied to INTVCC, the switching frequency will (See Datasheet)", 7 SGND (power) "Signal Ground Pin. This pin should have a low noise connection to reference ground. The feedback resistor network, external compensation network, and RT resistor should be connected to this ground.", 18 V2P5 (power) "2.5V Regulator Output. Outputs a regulated 2.5V supply voltage capable of supplying 10mA. Bypass this pin with a minimum of 1uF low ESR ceramic capacitor. Tie this pin to INTVCC when this output is not being used in the (See Datasheet)", 19 INTVCC (power) "Internal 3.3V Regulator Output. The internal power drivers and control circuits are powered from this voltage. The internal regulator is disabled when both channel 1 and channel 2 are disabled with the RUN1/ RUN2 inputs. (See Datasheet)", 29 EP (power) "Power Ground Pin. The (-) terminal of the input bypass capacitor, CIN, and the (-) terminal of the output capacitor, COUT, should be tied to this pin with a low impedance connection. This pin must be soldered to the PCB to (See Datasheet)"